# EAGLE library part SLG47503V (library GREENPAK)
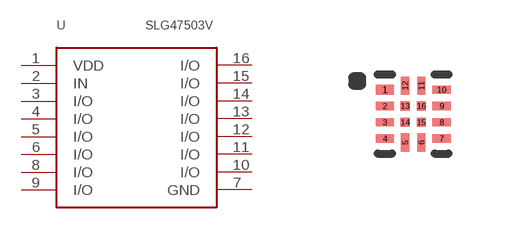
[diagram p61: symbol with the pads of MSTQFN-16-1.6X1.6-A; footprint MSTQFN-16-1.6X1.6-A]

Designator prefix -

## SLG47503V  [MSTQFN-16-1.6X1.6-A]
1  VDD
2  IN
3  I/O
4  I/O
5  I/O
6  I/O
7  GND
8  I/O
9  I/O
10  I/O
11  I/O
12  I/O
13  I/O
14  I/O
15  I/O
16  I/O

## Footprint MSTQFN-16-1.6X1.6-A (pad centres in mm)
smd 0.457 x 0.254: 1 -0.711,0.61
smd 0.457 x 0.203: 2 -0.711,0.204; 3 -0.711,-0.203; 4 -0.711,-0.609; 7 0.712,-0.609; 8 0.712,-0.203; 9 0.712,0.204; 10 0.712,0.61
smd 0.203 x 0.457: 5 -0.203,-0.711; 6 0.204,-0.711; 11 0.204,0.712; 12 -0.203,0.712
smd 0.229 x 0.229: 13 -0.203,0.204; 14 -0.203,-0.203; 15 0.204,-0.203; 16 0.204,0.204